# Altium footprint library DPAK.PcbLib: 1 footprints
Each footprint in its own frame and in the unit in brackets; x right, y up, seen from the top. Pads: shape width x height; smd on the part's side, far side on the other; paste and mask are expansions set on the pad; w line width, h text height; cw(c..) or ccw(c..) is an arc to the next point about the centre after c.
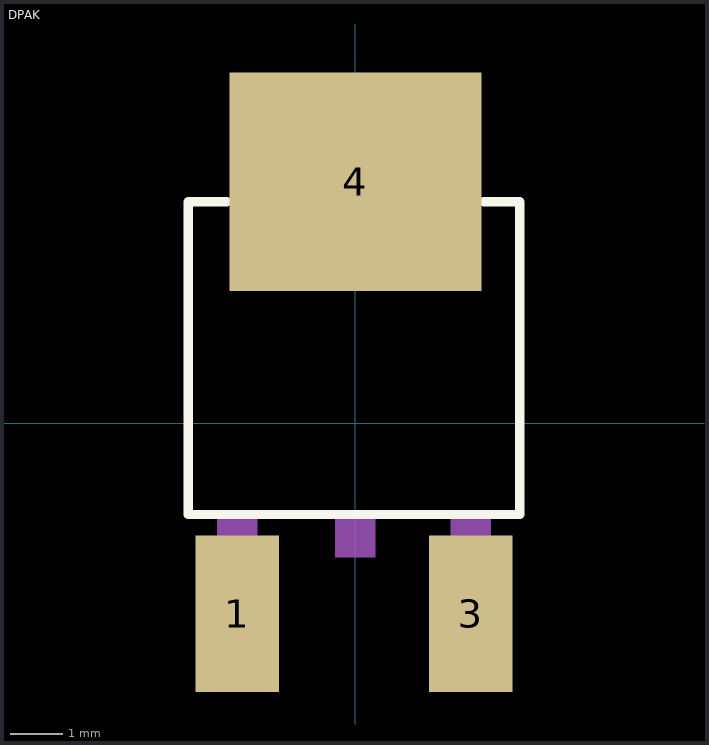
[diagram p0: the footprint, top view; thin cyan lines are the x and y axes]

## DPAK [mil]
pads (3):
  rect 63x118 smd: 1(-89,-144) 3(87,-144)
  rect 190x165 smd: 4(0,182)
Top Overlay:
  lines w7: -97,167 -126,167 -126,-69 124,-69 124,167 97,167
Mechanical 13:
  region: -74,-176.51 -104.3,-176.51 -104.3,-71 -74,-71
  region: 102,-176.27 72.11,-176.27 72.11,-71 102,-71
  region: 15,-101.25 -15.04,-101.25 -15.04,-71 15,-71
  lines w6: -97,167 97,167
  lines w40: -68,189 67,189
  text "1" at -95.14,-62.09 h24.04
  text "2" at -8.02,-62.12 h24.05
  text "3" at 78.05,-62.04 h24.02
  text "4" at -13.03,135.34 h24.06
3D body "LF50CDT-TR.STEP": height 94.49, standoff 0, extent -127.13,-158.09 128.78,224.79